# Altium schematic symbol library MKS_GEN_V14.SCHLIB: 4 symbols
Pins are listed as number, name and electrical type; pins without a type are passive.

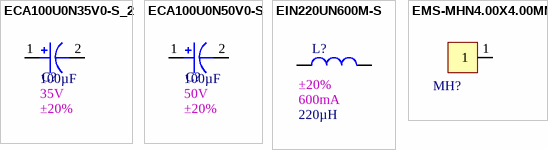
[diagram p0: symbols ECA100U0N35V0-S_2 to EMS-MHN4.00X4.00MM]

## ECA100U0N35V0-S_2
designator C?, comment value 100µF  1st Auxiliary Field: 35V  2nd Auxiliary Field: ±20%  (hidden comment: CAP 100 UF 20% 35 V)
Manufacturer: Würth Elektronik; Manufacturer Part Number: 865080545012; Internal Part Number: ECA100U0N35V0-S_2; Vendor Part Number: 732-8511-1-ND; 3rd Auxiliary Field: ROHS3 Compliant; Component Height (mm): 7.70mm; Vendor Name: Digi-Key; Temp Co: -55°C ~ 105°C; Part Type: CAP 100 UF 20% 35 V; 4th Auxiliary Field: *
footprint CAPAE660X770N (Footprint not found)
pins: 1 +VE, 2 -VE

## ECA100U0N50V0-S
designator C?, comment value 100µF  1st Auxiliary Field: 50V  2nd Auxiliary Field: ±20%  (hidden comment: CAP ALUM 100UF 20% 50V SMD)
Manufacturer: Nichicon; Manufacturer Part Number: UWT1H101MNL1GS; Internal Part Number: ECA100U0N50V0-S; Vendor Part Number: 493-2226-1-ND; 3rd Auxiliary Field: ROHS3 Compliant; Component Height (mm): 10.50mm; Vendor Name: Digi-Key; Temp Co: -55°C ~ 105°C; Part Type: CAP ALUM 100UF 20% 50V SMD; 4th Auxiliary Field: *
footprint CAPAE830X1050N (Footprint not found)
pins: 1 +VE, 2 -VE

## EIN220UN600M-S
designator L?, comment value 220µH  2nd Auxiliary Field: ±20%  1st Auxiliary Field: 600mA  (hidden comment: FIXED IND 220UH 600MA 1.18OHM SM)
Manufacturer: Bourns Inc.; Vendor Part Number: SRN6045-221MCT-ND; Manufacturer Part Number: SRN6045-221M; Internal Part Number: EIN220UN600M-S; Vendor Name: Digi-Key; Component Height (mm): 4.50mm; Temp Co: -40°C ~ 125°C; Part Type: FIXED IND 220UH 600MA 1.18OHM SM; 3rd Auxiliary Field: 1.18 Ohm; 4th Auxiliary Field: *
footprint SMDL-SRN6045 (Footprint not found)
pins: 1, 2

## EMS-MHN4.00X4.00MM
designator MH?, comment Mounting hole  (value not drawn)  (no BOM)
Internal Part Number: EMS-MHN4.00X4.00MM; Manufacturer: *; Manufacturer Part Number: *
footprint MH_NPTH_400H
pins: 1